# Altium footprint library flexy-pin.PcbLib: 1 footprints
Each footprint in its own frame and in the unit in brackets; x right, y up, seen from the top. Pads: shape width x height; smd on the part's side, far side on the other; paste and mask are expansions set on the pad; w line width, h text height; cw(c..) or ccw(c..) is an arc to the next point about the centre after c.
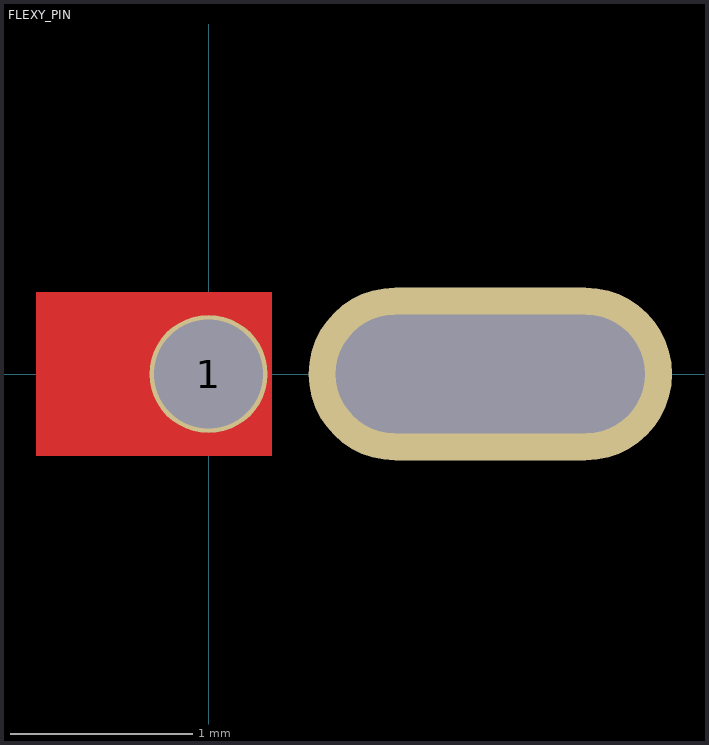
[diagram p0: the footprint, top view; thin cyan lines are the x and y axes]

## FLEXY_PIN [mm]
pads (2):
  round 0.65 hole 0.6 mask+0.05: 1(0,0)
  oval 2x0.95 hole 0.65 slot 1.7 at 0 deg mask+0.05: ""(1.55,0)
Top Layer:
  rectangle: -0.95,-0.45 0.35,0.45
Bottom Layer:
  rectangle: -0.95,-0.45 0.35,0.45
3D body "flexypin.step": height 4.93, standoff -6.08, extent -2.825,-0.2 3.383,0.2